# Altium schematic symbol library ADS1220IPWR.Schlib: 1 symbol
Pins are listed as number, name and electrical type; pins without a type are passive.

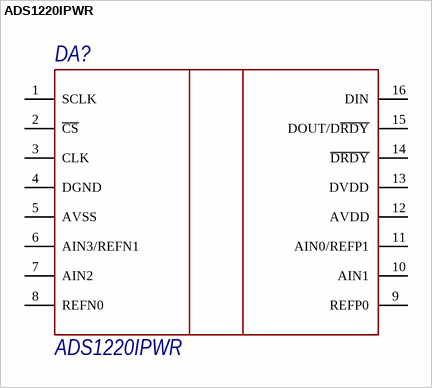
[diagram p0: symbol ADS1220IPWR]

## ADS1220IPWR
designator DA?
24-Бит Sigma-Delta аналого-цифровой преобразователь
pins: 1 SCLK, 2 ~{CS}, 3 CLK, 4 DGND, 5 AVSS, 6 AIN3/REFN1, 7 AIN2, 8 REFN0, 9 REFP0, 10 AIN1, 11 AIN0/REFP1, 12 AVDD, 13 DVDD, 14 ~{DRDY}, 15 DOUT/D~{RDY}, 16 DIN